# Altium schematic symbol library AO3404.SchLib: 1 symbol
Pins are listed as number, name and electrical type; pins without a type are passive.

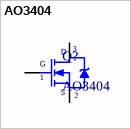
[diagram p0: symbol AO3404]

## AO3404
designator Q?
pins: 1 G, 2 S, 3 D